# EAGLE library part 74HC4051D,653 (library ruark2)
1 Circuit IC Switch 8:1 120Ohm 16-SO +/- 4V
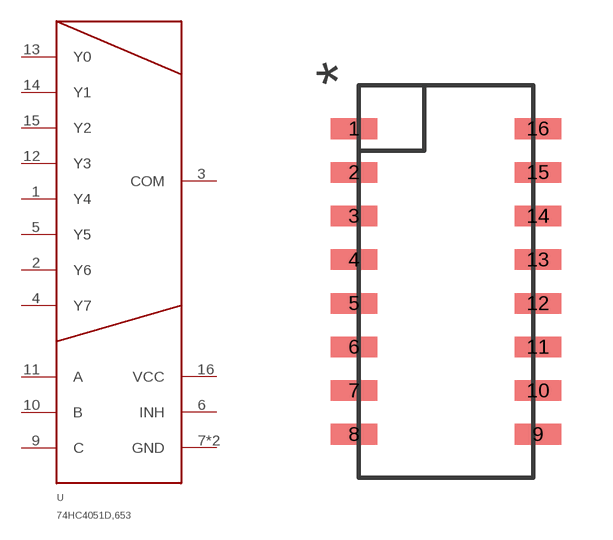
[diagram p81: symbol with the pads of SO16; footprint SO16]

Designator prefix U

## 74HC4051D,653 (PARTNO: 1727-2807-1-ND)  [SO16]
1  Y4
2  Y6
3  COM
4  Y7
5  Y5
6  INH
7  GND
8  GND
9  C
10  B
11  A
12  Y3
13  Y0
14  Y1
15  Y2
16  VCC

## Footprint SO16 (pad centres in mm)
smd 1.35 x 0.6: 1 -2.215,5.62; 2 -2.215,4.35; 3 -2.215,3.08; 4 -2.215,1.81; 5 -2.215,0.54; 6 -2.215,-0.73; 7 -2.215,-2; 8 -2.215,-3.27; 9 3.135,-3.27; 10 3.135,-2; 11 3.135,-0.73; 12 3.135,0.54; 13 3.135,1.81; 14 3.135,3.08; 15 3.135,4.35; 16 3.135,5.62